# EAGLE library part PCD8544 (library 000001)
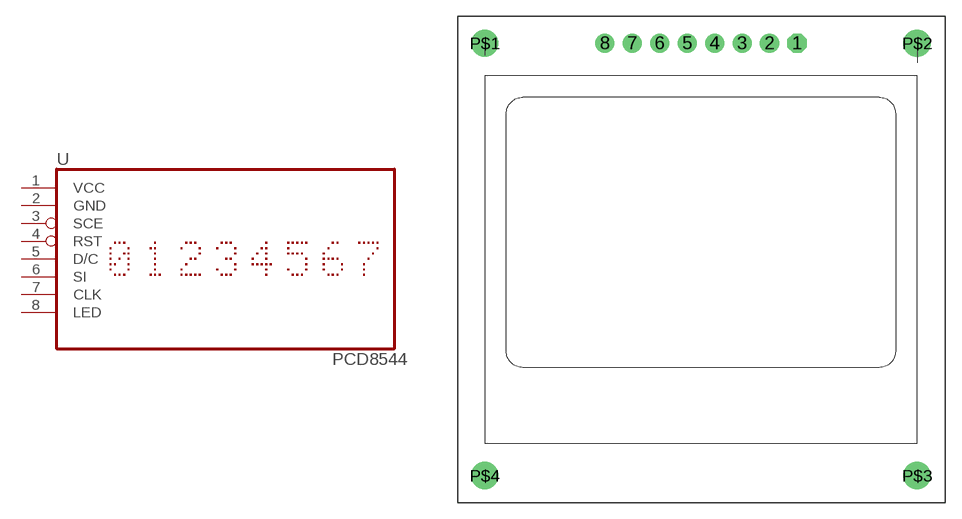
[diagram p91: symbol with the pads of 710168; footprint 710168]

Designator prefix -

## PCD8544  [710168]
1  VCC
2  GND
3  SCE
4  RST
5  D/C
6  SI
7  CLK
8  LED

## Footprint 710168 (pad centres in mm)
drill 0.5 pad 1.778 octagon: 1 8.89,0
drill 0.5 pad 1.778 round: 2 6.35,0; 3 3.81,0; 4 1.27,0; 5 -1.27,0; 6 -3.81,0; 7 -6.35,0; 8 -8.89,0
drill 0.5 pad 2.54 round: P$1 -20,0; P$2 20,0; P$3 20,-40; P$4 -20,-40